# EAGLE library part BALUN (library microbuilder)
BALUN - Baluns for RF 1206 800-1000MHz Balun (1206) - Digikey: 712-1023-1-ND
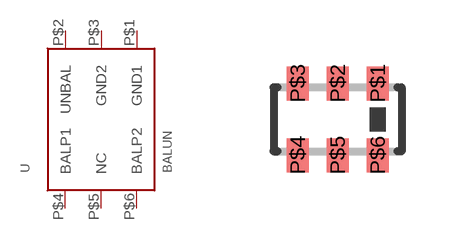
[diagram p46: symbol with the pads of BALUN1206; footprint BALUN1206]

Designator prefix U

## BALUN  [BALUN1206]
P$1  GND1
P$2  UNBAL
P$3  GND2
P$4  BALP1
P$5  NC
P$6  BALP2

## Footprint BALUN1206 (pad centres in mm)
smd 0.55 x 0.85: P$1 1,0.9; P$2 0,0.9; P$3 -1,0.9; P$4 -1,-0.9; P$5 0,-0.9; P$6 1,-0.9